# EAGLE library part MPL3115A2 (library Freescale_Sensors_v2)
Xtrinsic MPL3115A2, 24-bit ADC Digital Pressure Sensor I2C Precision Altimeter / Barometer 8-PIN LGA 5 mm x 3 mm x 1.1 mm
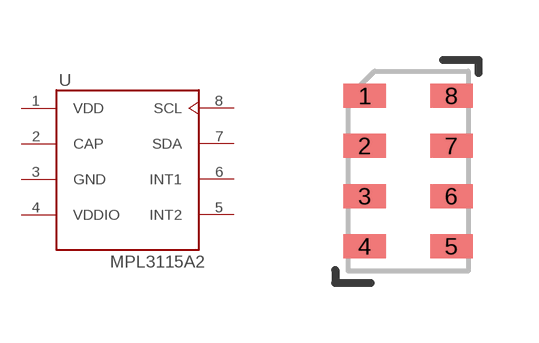
[diagram p2: symbol with the pads of LGA8_1P25_3X5_0P5; footprint LGA8_1P25_3X5_0P5]

Designator prefix -

## MPL3115A2  [LGA8_1P25_3X5_0P5]
1  VDD  pwr
2  CAP  pas
3  GND  pwr
4  VDDIO  pwr
5  INT2  out
6  INT1  out
7  SDA
8  SCL  in

## Footprint LGA8_1P25_3X5_0P5 (pad centres in mm)
smd 1.067 x 0.61: 1 -1.085,1.88; 2 -1.085,0.63; 3 -1.085,-0.63; 4 -1.085,-1.88; 5 1.085,-1.88; 6 1.085,-0.63; 7 1.085,0.63; 8 1.085,1.88